# EAGLE library part ACS711?-* (library ProjectOnly6)
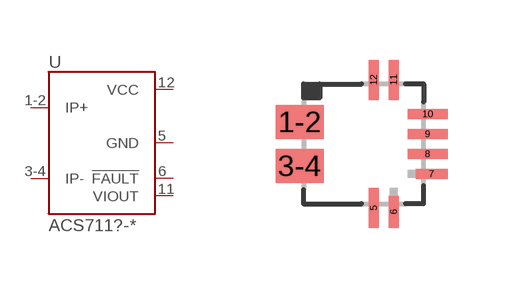
[diagram p11: symbol with the pads of QFN12; footprint QFN12]

Designator prefix U

## ACS711EX-15, ACS711EX-31  [QFN12]
1-2  IP+
3-4  IP-
5  GND
6  !FAULT
11  VIOUT
12  VCC

## Footprint QFN12 (pad centres in mm)
smd 1.2 x 0.85: 1-2 -1.6,0.55; 3-4 -1.6,-0.55
smd 0.25 x 1: 5 0.25,-1.6; 11 0.75,1.6; 12 0.25,1.6
smd 0.25 x 0.8: 6 0.75,-1.7
smd 0.8 x 0.25: 7 1.7,-0.75
smd 1 x 0.25: 8 1.6,-0.25; 9 1.6,0.25; 10 1.6,0.75